# EAGLE library part CY7C1051DV33 (library ic)
SRAM 8Mb 10ns3.3V 512Kx16 Fast Async
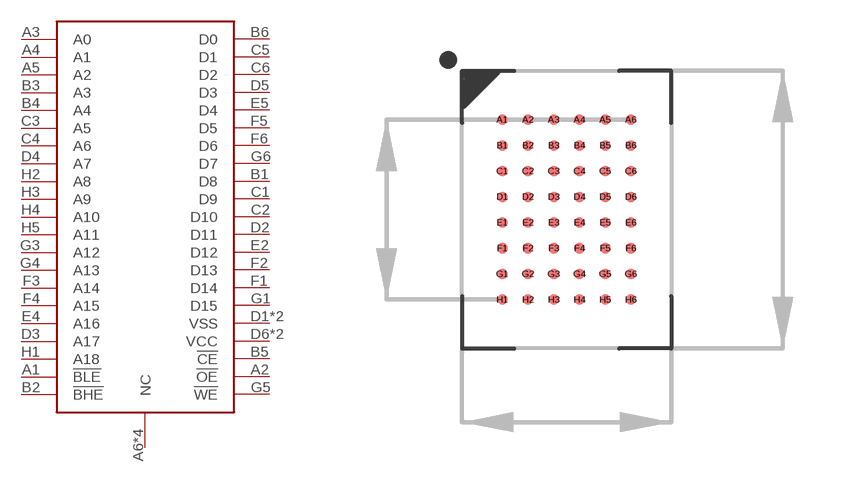
[diagram p13: symbol with the pads of BGA-48; footprint BGA-48]

Designator prefix U

## CY7C1051DV33  [BGA-48]
A1  !BLE
A2  !OE
A3  A0
A4  A1
A5  A2
A6  NC
B1  D8
B2  !BHE
B3  A3
B4  A4
B5  !CE
B6  D0
C1  D9
C2  D10
C3  A5
C4  A6
C5  D1
C6  D2
D1  VSS
D2  D11
D3  A17
D4  A7
D5  D3
D6  VCC
E1  VCC
E2  D12
E3  NC
E4  A16
E5  D4
E6  VSS
F1  D14
F2  D13
F3  A14
F4  A15
F5  D5
F6  D6
G1  D15
G2  NC
G3  A12
G4  A13
G5  !WE
G6  D7
H1  A18
H2  A8
H3  A9
H4  A10
H5  A11
H6  NC

## Footprint BGA-48 (pad centres in mm)
48-BGA, collapsing, 0.75 mm pitch, 8.00 X 6.00 X 1.20 mm body
smd 0.3 x 0.3: A1 -1.875,2.625; A2 -1.125,2.625; A3 -0.375,2.625; A4 0.375,2.625; A5 1.125,2.625; A6 1.875,2.625; B1 -1.875,1.875; B2 -1.125,1.875; B3 -0.375,1.875; B4 0.375,1.875; B5 1.125,1.875; B6 1.875,1.875; C1 -1.875,1.125; C2 -1.125,1.125; C3 -0.375,1.125; C4 0.375,1.125; C5 1.125,1.125; C6 1.875,1.125; D1 -1.875,0.375; D2 -1.125,0.375; D3 -0.375,0.375; D4 0.375,0.375; D5 1.125,0.375; D6 1.875,0.375; E1 -1.875,-0.375; E2 -1.125,-0.375; E3 -0.375,-0.375; E4 0.375,-0.375; E5 1.125,-0.375; E6 1.875,-0.375; F1 -1.875,-1.125; F2 -1.125,-1.125; F3 -0.375,-1.125; F4 0.375,-1.125; F5 1.125,-1.125; F6 1.875,-1.125; G1 -1.875,-1.875; G2 -1.125,-1.875; G3 -0.375,-1.875; G4 0.375,-1.875; G5 1.125,-1.875; G6 1.875,-1.875; H1 -1.875,-2.625; H2 -1.125,-2.625; H3 -0.375,-2.625; H4 0.375,-2.625; H5 1.125,-2.625; H6 1.875,-2.625